# EAGLE library part ADXL343BCCZ (library CU in Space)
ACCELEROMETER, 3AXIS, 16G, 13BIT, 14LGA
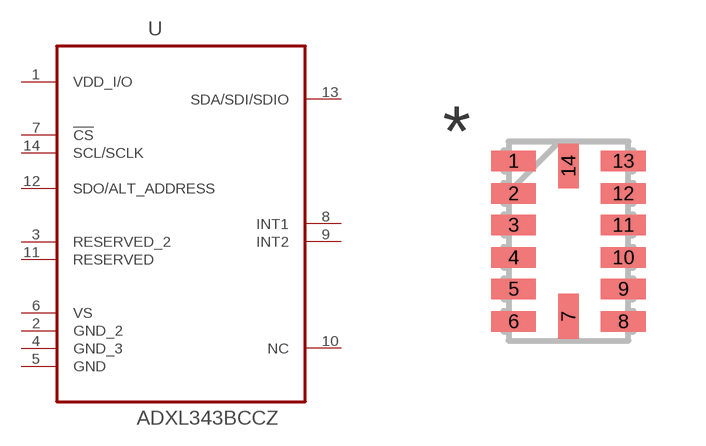
[diagram p2: symbol with the pads of LGA14R80P1X6_300X500X100; footprint LGA14R80P1X6_300X500X100]

Designator prefix U

## ADXL343BCCZ (MPN: ADXL343BCCZ; OC_FARNELL: 2191716; OC_NEWARK: 90T1358; PACKAGE: 14LGA; SUPPLIER: ANALOG DEVICES)  [LGA14R80P1X6_300X500X100]
1  VDD_I/O  pwr
2  GND_2  pas
3  RESERVED_2  in
4  GND_3  pas
5  GND  pas
6  VS  pwr
7  !CS  in
8  INT1  out
9  INT2  out
10  NC  nc
11  RESERVED  in
12  SDO/ALT_ADDRESS  in
13  SDA/SDI/SDIO  out
14  SCL/SCLK  in

## Footprint LGA14R80P1X6_300X500X100 (pad centres in mm)
smd 1.118 x 0.508: 1 -1.372,2.007; 2 -1.372,1.194; 3 -1.372,0.406; 4 -1.372,-0.406; 5 -1.372,-1.194; 6 -1.372,-2.007; 8 1.372,-2.007; 9 1.372,-1.194; 10 1.372,-0.406; 11 1.372,0.406; 12 1.372,1.194; 13 1.372,2.007
smd 0.508 x 1.118: 7 0,-1.88; 14 0,1.88